# EAGLE library part LM22674 (library Keybuster)
500 mA SIMPLE SWITCHER®, Step-Down Voltage Regulator with Precision Enable
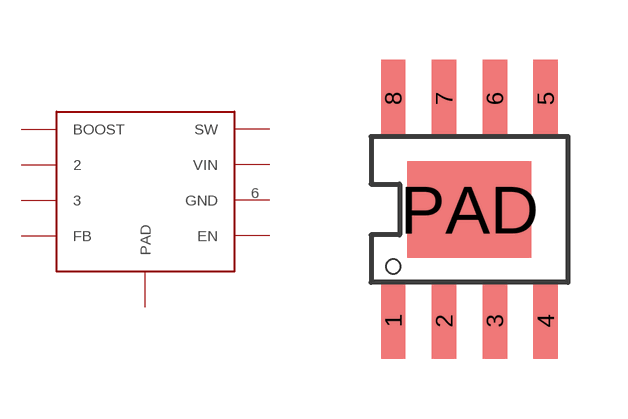
[diagram p0: symbol with the pads of LM22674; footprint LM22674]

Designator prefix -

## LM22674  [LM22674]
1  BOOST
2  2
3  3
4  FB
5  EN
6  GND
7  VIN
8  SW
PAD  PAD

## Footprint LM22674 (pad centres in mm)
smd 0.61 x 1.91: 1 -1.905,-2.78; 2 -0.635,-2.78; 3 0.635,-2.78; 4 1.905,-2.78; 5 1.905,2.78; 6 0.635,2.78; 7 -0.635,2.78; 8 -1.905,2.78
smd 3.1 x 2.41: PAD 0,0